# Altium integrated library USB3130-XX-X_REVD.IntLib: 1 symbol
Pins are listed as number, name and electrical type; pins without a type are passive.

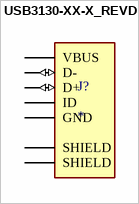
[diagram p0: symbol USB3130-XX-X_REVD]

## USB3130-XX-X_REVD
designator J?
USB - micro B USB 2.0 Receptacle Connector 5 Position Through Hole; MP: USB3130-30-A; MF: Global Connector Technology; Availability: In Stock; Package: None; SnapEDA_Link: https://www.snapeda.com/parts/USB3130-30-A/Global+Connector+Technology/view-part/?ref=snap; Price: None; Value: *; Check_prices: https://www.snapeda.com/parts/USB3130-30-A/Global+Connector+Technology/view-part/?ref=eda
footprint GCT_USB3130-XX-X_REVD
pins: 1 VBUS (power), 2 D- (io), 3 D+ (io), 4 ID, 5 GND (power), 6 SHIELD, 7 SHIELD